# Altium footprint library BTS7960_Header.PcbLib: 1 footprints
Each footprint in its own frame and in the unit in brackets; x right, y up, seen from the top. Pads: shape width x height; smd on the part's side, far side on the other; paste and mask are expansions set on the pad; w line width, h text height; cw(c..) or ccw(c..) is an arc to the next point about the centre after c.
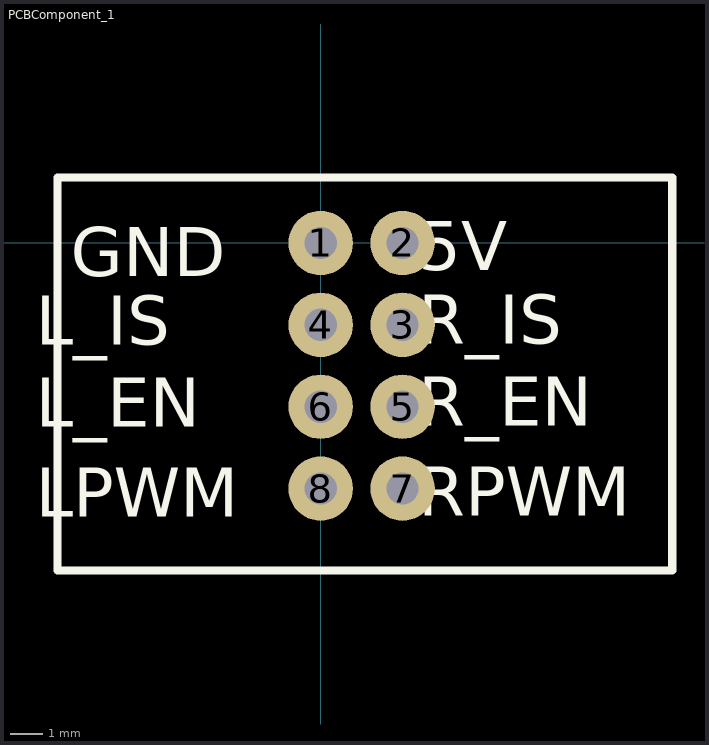
[diagram p0: the footprint, top view; thin cyan lines are the x and y axes]

## PCBComponent_1 [mm]
pads (8):
  round 2 hole 1: 1(0,0) 2(2.54,0) 3(2.54,-2.54) 4(0,-2.54) 5(2.54,-5.08) 6(0,-5.08) 7(2.54,-7.62) 8(0,-7.62)
Top Overlay:
  lines w0.254: -8.166,-10.16 -8.166,2.03 10.905,2.03 10.905,-10.16 -8.166,-10.16
  text "5V" at 3.022,-0.839 h1.52
  text "R_IS" at 3.022,-3.125 h1.52
  text "R_EN" at 3.022,-5.665 h1.52
  text "RPWM" at 3.022,-8.459 h1.52
  text "LPWM" at -8.839,-8.499 h1.52
  text "L_EN" at -8.839,-5.705 h1.52
  text "L_IS" at -8.839,-3.165 h1.52
  text "GND" at -7.751,-1.029 h1.52